# EAGLE library part PAM8012MOD (library ytani1)
PAM8012使用2W D級アンプモジュール https://akizukidenshi.com/catalog/g/gK-08217/ Vin: 2.5V-5.5V 8ohm: 1W 4ohm: 2W IN-をGNDに接続することでシングルエンド入力としても使用できます。
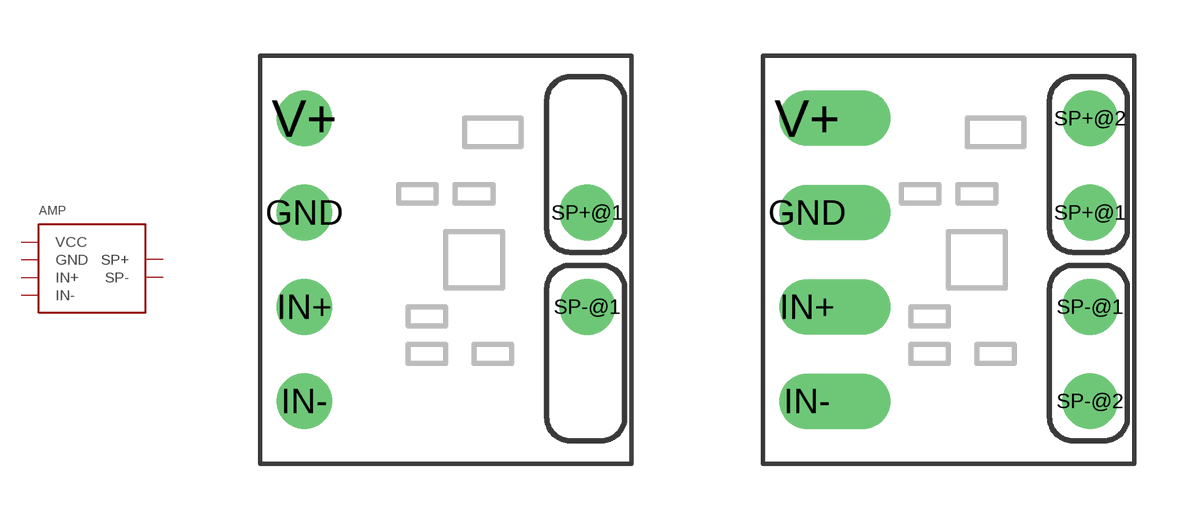
[diagram p2: symbol with the pads of PAM8012MOD-A; footprints PAM8012MOD-A, PAM8012MOD-B]

Designator prefix AMP

## PAM8012MOD (CHIP1: PAM8012; OC_AKIZUKI: K-08217; URL_AKIZUKI: https://akizukidenshi.com/catalog/g/gK-08217/)  [PAM8012MOD-A]
GND  GND  pas
IN+  IN+  in
IN-  IN-  in
SP+@1  SP+  out
SP-@1  SP-  out
V+  VCC  pas

## PAM8012MODPAM8012MOD-B  [PAM8012MOD-B]
GND  GND  pas
IN+  IN+  in
IN-  IN-  in
SP+@1  SP+  out
SP+@2  SP+  out
SP-@1  SP-  out
SP-@2  SP-  out
V+  VCC  pas

## Footprint PAM8012MOD-A (pad centres in mm)
drill 0.9 pad 1.5: GND -3.81,1.27; IN+ -3.81,-1.27; IN- -3.81,-3.81; SP+@1 3.81,1.27; SP-@1 3.81,-1.27; V+ -3.81,3.81

## Footprint PAM8012MOD-B (pad centres in mm)
drill 0.9 pad 1.5 offset: GND -3.81,1.27; IN+ -3.81,-1.27; IN- -3.81,-3.81; V+ -3.81,3.81
drill 0.9 pad 1.5: SP+@1 3.81,1.27; SP+@2 3.81,3.81; SP-@1 3.81,-1.27; SP-@2 3.81,-3.81